# EAGLE library part JST-8PIN (library CONN, JST 8 pin)
SM08B-SRSS-TB(LF)(SN)
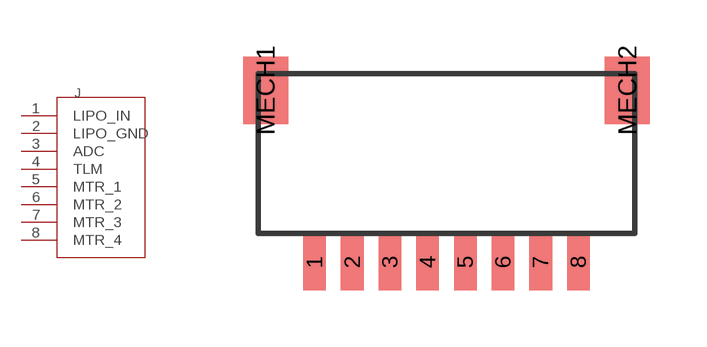
[diagram p0: symbol with the pads of 8PIN_CONNECTOR; footprint 8PIN_CONNECTOR]

Designator prefix J

## JST-8PIN  [8PIN_CONNECTOR]
1  LIPO_IN
2  LIPO_GND
3  ADC
4  TLM
5  MTR_1
6  MTR_2
7  MTR_3
8  MTR_4

## Footprint 8PIN_CONNECTOR (pad centres in mm)
smd 0.6 x 1.5: 1 1.5,-0.75; 2 2.5,-0.75; 3 3.5,-0.75; 4 4.5,-0.75; 5 5.5,-0.75; 6 6.5,-0.75; 7 7.5,-0.75; 8 8.5,-0.75
smd 1.2 x 1.8: MECH1 0.2,3.81; MECH2 9.8,3.81